# EAGLE library part ERM8-040-XX.X-X-DV (library con-samtec-er8)
ERM8 Series - Male
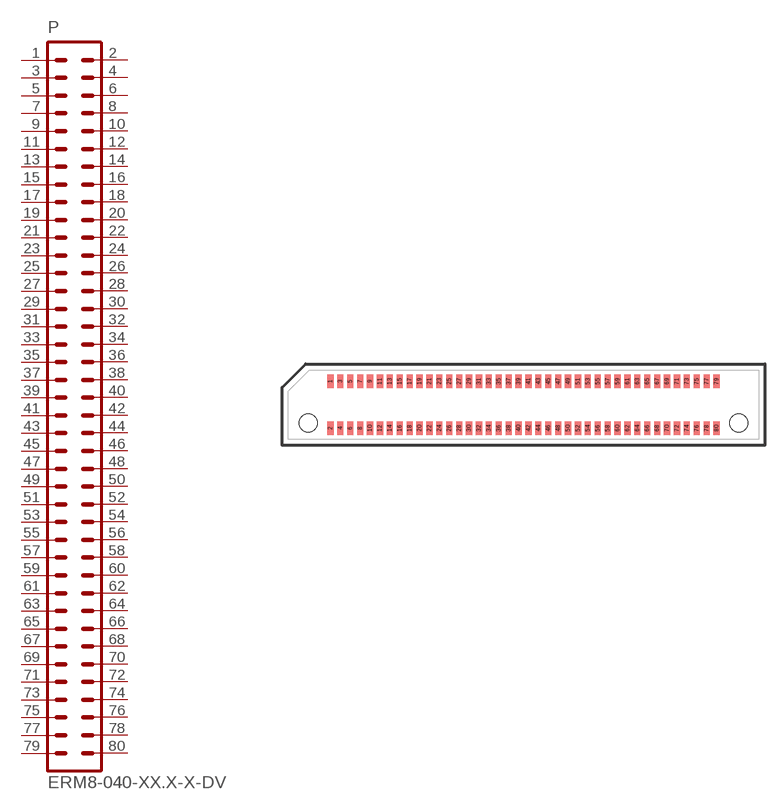
[diagram p3: symbol with the pads of ERM8-040-XX.X-X-DV; footprint ERM8-040-XX.X-X-DV]

Designator prefix P

## ERM8-040-XX.X-X-DV  [ERM8-040-XX.X-X-DV]
1  1  pas
2  2  pas
3  3  pas
4  4  pas
5  5  pas
6  6  pas
7  7  pas
8  8  pas
9  9  pas
10  10  pas
11  11  pas
12  12  pas
13  13  pas
14  14  pas
15  15  pas
16  16  pas
17  17  pas
18  18  pas
19  19  pas
20  20  pas
21  21  pas
22  22  pas
23  23  pas
24  24  pas
25  25  pas
26  26  pas
27  27  pas
28  28  pas
29  29  pas
30  30  pas
31  31  pas
32  32  pas
33  33  pas
34  34  pas
35  35  pas
36  36  pas
37  37  pas
38  38  pas
39  39  pas
40  40  pas
41  41  pas
42  42  pas
43  43  pas
44  44  pas
45  45  pas
46  46  pas
47  47  pas
48  48  pas
49  49  pas
50  50  pas
51  51  pas
52  52  pas
53  53  pas
54  54  pas
55  55  pas
56  56  pas
57  57  pas
58  58  pas
59  59  pas
60  60  pas
61  61  pas
62  62  pas
63  63  pas
64  64  pas
65  65  pas
66  66  pas
67  67  pas
68  68  pas
69  69  pas
70  70  pas
71  71  pas
72  72  pas
73  73  pas
74  74  pas
75  75  pas
76  76  pas
77  77  pas
78  78  pas
79  79  pas
80  80  pas

## Footprint ERM8-040-XX.X-X-DV (pad centres in mm)
0.8mm Edge Rate Terminal Assembly MALE, Double Vertical Row, 40 Position
smd 0.5 x 1.1: 1 -15.6,1.9; 2 -15.6,-1.9; 3 -14.8,1.9; 4 -14.8,-1.9; 5 -14,1.9; 6 -14,-1.9; 7 -13.2,1.9; 8 -13.2,-1.9; 9 -12.4,1.9; 10 -12.4,-1.9; 11 -11.6,1.9; 12 -11.6,-1.9; 13 -10.8,1.9; 14 -10.8,-1.9; 15 -10,1.9; 16 -10,-1.9; 17 -9.2,1.9; 18 -9.2,-1.9; 19 -8.4,1.9; 20 -8.4,-1.9; 21 -7.6,1.9; 22 -7.6,-1.9; 23 -6.8,1.9; 24 -6.8,-1.9; 25 -6,1.9; 26 -6,-1.9; 27 -5.2,1.9; 28 -5.2,-1.9; 29 -4.4,1.9; 30 -4.4,-1.9; 31 -3.6,1.9; 32 -3.6,-1.9; 33 -2.8,1.9; 34 -2.8,-1.9; 35 -2,1.9; 36 -2,-1.9; 37 -1.2,1.9; 38 -1.2,-1.9; 39 -0.4,1.9; 40 -0.4,-1.9; 41 0.4,1.9; 42 0.4,-1.9; 43 1.2,1.9; 44 1.2,-1.9; 45 2,1.9; 46 2,-1.9; 47 2.8,1.9; 48 2.8,-1.9; 49 3.6,1.9; 50 3.6,-1.9; 51 4.4,1.9; 52 4.4,-1.9; 53 5.2,1.9; 54 5.2,-1.9; 55 6,1.9; 56 6,-1.9; 57 6.8,1.9; 58 6.8,-1.9; 59 7.6,1.9; 60 7.6,-1.9; 61 8.4,1.9; 62 8.4,-1.9; 63 9.2,1.9; 64 9.2,-1.9; 65 10,1.9; 66 10,-1.9; 67 10.8,1.9; 68 10.8,-1.9; 69 11.6,1.9; 70 11.6,-1.9; 71 12.4,1.9; 72 12.4,-1.9; 73 13.2,1.9; 74 13.2,-1.9; 75 14,1.9; 76 14,-1.9; 77 14.8,1.9; 78 14.8,-1.9; 79 15.6,1.9; 80 15.6,-1.9
hole 1.45 at -17.4,-1.5
hole 1.45 at 17.4,-1.5